# Altium schematic symbol library ADUM3190ARQZ-RL7.SchLib: 1 symbol
Pins are listed as number, name and electrical type; pins without a type are passive.

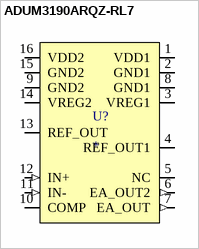
[diagram p0: symbol ADUM3190ARQZ-RL7]

## ADUM3190ARQZ-RL7
designator U?
pins: 1 VDD1 (power), 2 GND1 (power), 3 VREG1, 4 REF_OUT1, 5 NC, 6 EA_OUT2 (out), 7 EA_OUT (out), 8 GND1 (power), 9 GND2 (power), 10 COMP, 11 IN- (in), 12 IN+ (in), 13 REF_OUT, 14 VREG2, 15 GND2 (power), 16 VDD2 (power)